# Altium schematic symbol library communication_modules.SchLib: 10 symbols
Pins are listed as number, name and electrical type; pins without a type are passive.

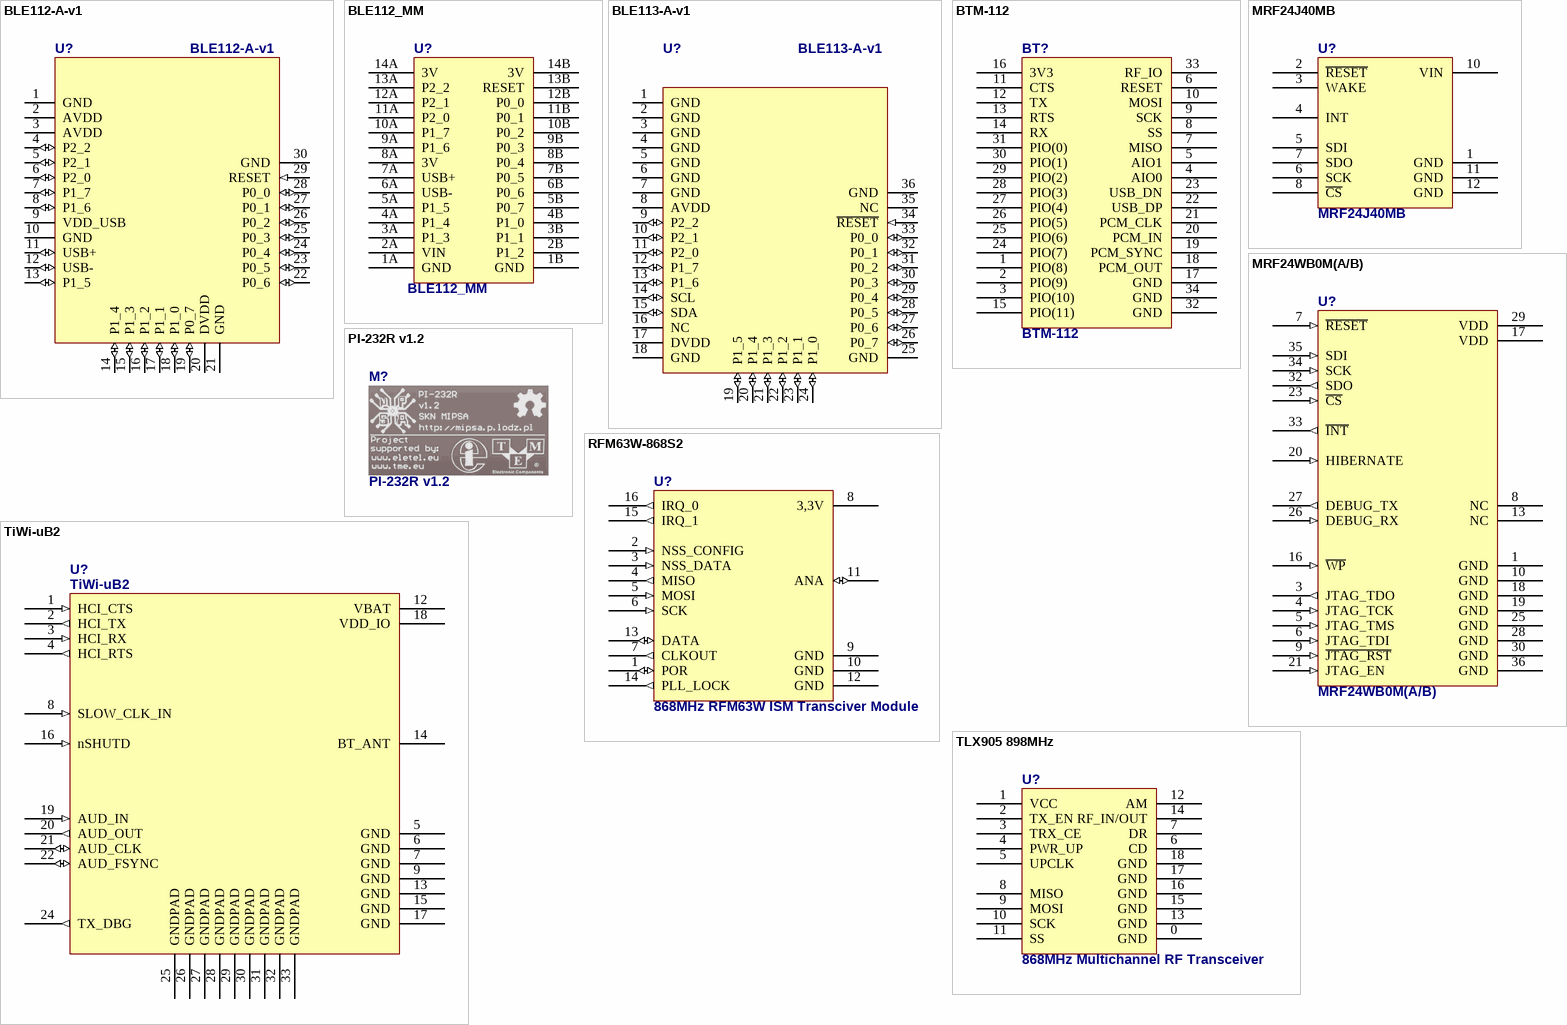
[diagram p0: symbols BLE112-A-v1 to TLX905 898MHz]

## BLE112-A-v1
designator U?
Bluetooth ®  low energy single mode module
footprint BLE112-x (BLE112 Bluetooth Low Energy Single Mode Module)
pins: 1 GND (power), 2 AVDD (power), 3 AVDD (power), 4 P2_2 (io), 5 P2_1 (io), 6 P2_0 (io), 7 P1_7 (io), 8 P1_6 (io), 9 VDD_USB (power), 10 GND (power), 11 USB+ (io), 12 USB- (io), 13 P1_5 (io), 14 P1_4 (io), 15 P1_3 (io), 16 P1_2 (io), 17 P1_1 (io), 18 P1_0 (io), 19 P0_7 (io), 20 DVDD (power), 21 GND (power), 22 P0_6 (io), 23 P0_5 (io), 24 P0_4 (io), 25 P0_3 (io), 26 P0_2 (io), 27 P0_1 (io), 28 P0_0 (io), 29 RESET (in), 30 GND (power)

## BLE112_MM
designator U?
footprint BLE112_MM
footprint BLE112_MM_NO_BATT
pins: 1A GND, 1B GND, 2A VIN, 2B P1_2, 3A P1_3, 3B P1_1, 4A P1_4, 4B P1_0, 5A P1_5, 5B P0_7, 6A USB-, 6B P0_6, 7A USB+, 7B P0_5, 8A 3V, 8B P0_4, 9A P1_6, 9B P0_3, 10A P1_7, 10B P0_2, 11A P2_0, 11B P0_1, 12A P2_1, 12B P0_0, 13A P2_2, 13B RESET, 14A 3V, 14B 3V

## BLE113-A-v1
designator U?
Bluetooth ®  low energy single mode module
footprint BLE113
pins: 1 GND (power), 2 GND (power), 3 GND (power), 4 GND (power), 5 GND (power), 6 GND (power), 7 GND (power), 8 AVDD (power), 9 P2_2 (io), 10 P2_1 (io), 11 P2_0 (io), 12 P1_7 (io), 13 P1_6 (io), 14 SCL (io), 15 SDA (io), 16 NC, 17 DVDD (power), 18 GND (power), 19 P1_5 (io), 20 P1_4 (io), 21 P1_3 (io), 22 P1_2 (io), 23 P1_1 (io), 24 P1_0 (io), 25 GND (power), 26 P0_7 (io), 27 P0_6 (io), 28 P0_5 (io), 29 P0_4 (io), 30 P0_3 (io), 31 P0_2 (io), 32 P0_1 (io), 33 P0_0 (io), 34 ~{RESET} (in), 35 NC, 36 GND (power)

## BTM-112
designator BT?
Rayson Class 2 Bluetooth Module
footprint BTM11x (Bluetooth Class 2 BC04-ext Module)
pins: 1 PIO(8), 2 PIO(9), 3 PIO(10), 4 AIO0, 5 AIO1, 6 RESET, 7 MISO, 8 SS, 9 SCK, 10 MOSI, 11 CTS, 12 TX, 13 RTS, 14 RX, 15 PIO(11), 16 3V3, 17 GND, 18 PCM_OUT, 19 PCM_SYNC, 20 PCM_IN, 21 PCM_CLK, 22 USB_DP, 23 USB_DN, 24 PIO(7), 25 PIO(6), 26 PIO(5), 27 PIO(4), 28 PIO(3), 29 PIO(2), 30 PIO(1), 31 PIO(0), 32 GND, 33 RF_IO, 34 GND

## MRF24J40MB
designator U?
2.4 GHz IEEE Std. 802.15.4 20 dBm RF Transceiver Module
footprint MRF24J40MB
pins: 1 GND, 2 ~{RESET}, 3 WAKE, 4 INT, 5 SDI, 6 SCK, 7 SDO, 8 ~{CS}, 9 NC hidden, 10 VIN, 11 GND, 12 GND

## MRF24WB0M(A/B)
designator U?
2.4 GHz IEEE Std. 802.11b RF Transceiver Module
footprint MRF24WB0M(A/B)
pins: 1 GND (power), 2 NC hidden, 3 JTAG_TDO (out), 4 JTAG_TCK (in), 5 JTAG_TMS (in), 6 JTAG_TDI (in), 7 ~{RESET} (in), 8 NC, 9 ~{JTAG_RST} (in), 10 GND (power), 11 NC hidden, 12 NC hidden, 13 NC, 14 NC hidden, 15 NC hidden, 16 ~{WP} (in), 17 VDD (power), 18 GND (power), 19 GND (power), 20 HIBERNATE (in), 21 JTAG_EN (in), 22 NC hidden, 23 ~{CS} (in), 24 NC hidden, 25 GND (power), 26 DEBUG_RX (in), 27 DEBUG_TX (out), 28 GND (power), 29 VDD (power), 30 GND (power), 31 NC hidden, 32 SDO (out), 33 ~{INT} (out), 34 SCK (in), 35 SDI (in), 36 GND (power)
1 alternate drawing of the same symbol

## PI-232R v1.2
designator M?  (mechanical)
footprint PI-232R_v1.2_mounting_holes

## RFM63W-868S2
designator U?, comment 868MHz RFM63W ISM Transciver Module
footprint RFM63W (RFM63W ISM Transciver Module)
pins: 1 POR (io) "POR - do not connect if unused", 2 NSS_CONFIG (in) "SPI CONFIG enable", 3 NSS_DATA (in) "SPI DATA enable", 4 MISO (out) "SPI data output", 5 MOSI (in) "SPI data input", 6 SCK (in) "SPI clock input", 7 CLKOUT (out) "Clock output", 8 3,3V (power) "Supply voltage", 9 GND (power) "Ground", 10 GND (power) "Ground", 11 ANA (io) "RF input/output", 12 GND (power) "Ground", 13 DATA (io) "NRZ data input and output (Continuous mode)", 14 PLL_LOCK (out) "PLL lock detection output", 15 IRQ_1 (out) "Interrupt output", 16 IRQ_0 (out) "Interrupt output"

## TiWi-uB2
designator U?
BT Dual Mode, CC2564
footprint TiWi-uB2 (TiWi - uB2 Bluetooth Module)
pins: 1 HCI_CTS (in), 2 HCI_TX (out), 3 HCI_RX (in), 4 HCI_RTS (out), 5 GND, 6 GND, 7 GND, 8 SLOW_CLK_IN (in), 9 GND, 10 NC1 hidden, 11 NC2 hidden, 12 VBAT (power), 13 GND, 14 BT_ANT, 15 GND, 16 nSHUTD (in), 17 GND, 18 VDD_IO (power), 19 AUD_IN (in), 20 AUD_OUT (out), 21 AUD_CLK (io), 22 AUD_FSYNC (io), 23 NC3 hidden, 24 TX_DBG (out), 25 GNDPAD, 26 GNDPAD, 27 GNDPAD, 28 GNDPAD, 29 GNDPAD, 30 GNDPAD, 31 GNDPAD, 32 GNDPAD, 33 GNDPAD

## TLX905 898MHz
designator U?, comment 868MHz Multichannel RF Transceiver
footprint TLX905
pins: 0 GND, 1 VCC, 2 TX_EN, 3 TRX_CE, 4 PWR_UP, 5 UPCLK, 6 CD, 7 DR, 8 MISO, 9 MOSI, 10 SCK, 11 SS, 12 AM, 13 GND, 14 RF_IN/OUT, 15 GND, 16 GND, 17 GND, 18 GND